# Altium footprint library accelero.PcbLib: 1 footprints
Each footprint in its own frame and in the unit in brackets; x right, y up, seen from the top. Pads: shape width x height; smd on the part's side, far side on the other; paste and mask are expansions set on the pad; w line width, h text height; cw(c..) or ccw(c..) is an arc to the next point about the centre after c.
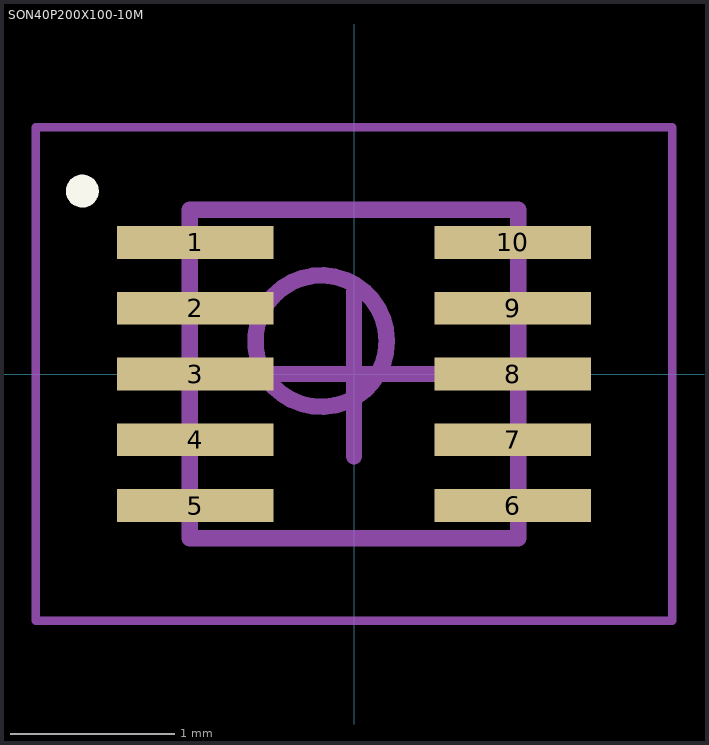
[diagram p0: the footprint, top view; thin cyan lines are the x and y axes]

## SON40P200X100-10M [mm] "SON, 10-Leads, Body 2,00x2,00mm, Pitch 0,40mm, IPC Low Density"
height 1
pads (10):
  rect 0.95x0.2 smd: 1(-0.965,0.8) 2(-0.965,0.4) 3(-0.965,0) 4(-0.965,-0.4) 5(-0.965,-0.8) 6(0.965,-0.8) 7(0.965,-0.4) 8(0.965,0) 9(0.965,0.4) 10(0.965,0.8)
Top Overlay:
  circle w0.1: c-1.652,1.112 r0.05
Mechanical 13:
  circle w0.1: c-0.2,0.2 r0.4
  lines w0.1: -1,-1 1,-1 1,1 -1,1 -1,-1
Mechanical 15:
  lines w0.05: -1.935,-1.5 1.935,-1.5 1.935,1.5 -1.935,1.5 -1.935,-1.5
  lines w0.1: -0.5,0 0.5,0 ; 0,-0.5 0,0.5
3D body "SON40P200X100-10M.step": height 1, standoff 0, extent -1.001,-1 1.001,1